# Altium schematic symbol library registers.SchLib: 1 symbol
Pins are listed as number, name and electrical type; pins without a type are passive.

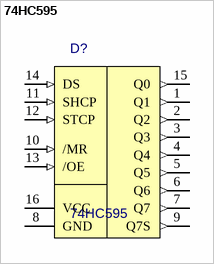
[diagram p0: symbol 74HC595]

## 74HC595
designator D?
Value: *
footprint SO16
pins: 1 Q1 (out), 2 Q2 (out), 3 Q3 (out), 4 Q4 (out), 5 Q5 (out), 6 Q6 (out), 7 Q7 (out), 8 GND (power), 9 Q7S (out), 10 /MR (in), 11 SHCP (in), 12 STCP (in), 13 /OE (in), 14 DS (in), 15 Q0 (out), 16 VCC (power)